# EAGLE library part EMI_FILTER_22PF/200-MA (library lbm)
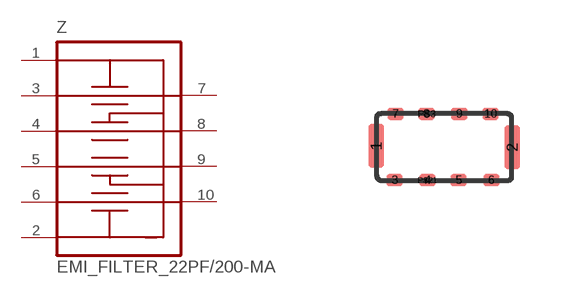
[diagram p26: symbol with the pads of EMI_FILTER_1206; footprint EMI_FILTER_1206]

Designator prefix Z

## EMI_FILTER_22PF/200-MA  [EMI_FILTER_1206]
1  P$1
2  P$6
3  P$2
4  P$3
5  P$4
6  P$5
7  P$7
8  P$8
9  P$9
10  P$10

## Footprint EMI_FILTER_1206 (pad centres in mm)
smd 0.4 x 1.1: 1 0,-0.82; 2 3.4,-0.86
smd 0.4 x 0.3: 3 0.46,-1.68; 4 1.28,-1.68; 5 2.06,-1.68; 6 2.88,-1.68; 7 0.484,-0.02; 8 1.26,-0.02; 9 2.076,-0.02; 10 2.86,-0.02; P$3 1.26,-0.02; P$21 1.28,-1.68